# EAGLE library part SIM_CARD_9P (library Eagle_CAD_parts)
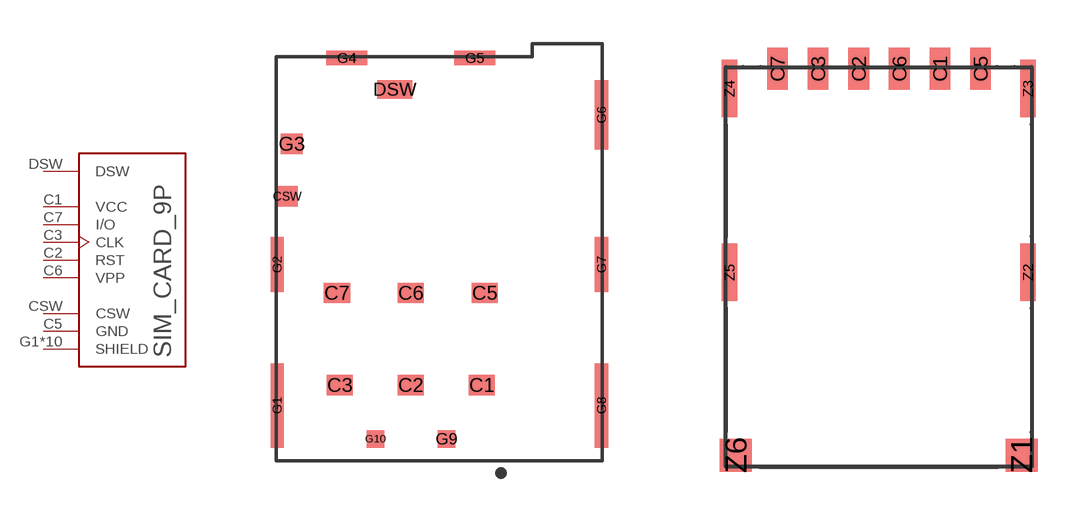
[diagram p30: symbol with the pads of NANO_SIM_CARD; footprints NANO_SIM_CARD, NANO_SIM_CARD_2]

Designator prefix S

## SIM_CARD_9P_SF72S006VBAR2500 (DIGIKEY_PART_NUMBER: 670-2799-1-ND; MANUFACTURER_PART_NUMBER: SF72S006VBAR2500; SIM_SIZE: Nano)  [NANO_SIM_CARD]
C1  VCC  pwr
C2  RST
C3  CLK
C5  GND  pwr
C6  VPP  pwr
C7  I/O
CSW  CSW
DSW  DSW
G1  SHIELD  pas
G2  SHIELD  pas
G3  SHIELD  pas
G4  SHIELD  pas
G5  SHIELD  pas
G6  SHIELD  pas
G7  SHIELD  pas
G8  SHIELD  pas
G9  SHIELD  pas
G10  SHIELD  pas

## SIM_CARD_9P_693043020611 (DIGIKEY_PART_NUMBER: 732-5954-1-ND; MANUFACTURER_PART_NUMBER: 693043020611; MOUSER_PART_NUMBER: 710-693043020611; SIM_SIZE: Nano)  [NANO_SIM_CARD_2]
C1  VCC  pwr
C2  RST
C3  CLK
C5  GND  pwr
C6  VPP  pwr
C7  I/O
Z1  SHIELD  pas
Z2  SHIELD  pas
Z3  SHIELD  pas
Z4  SHIELD  pas
Z5  CSW
Z6  DSW

## Footprint NANO_SIM_CARD (pad centres in mm)
smd 0.9 x 0.7: C1 2.44,-4.575; C2 0,-4.575; C3 -2.44,-4.575; C5 2.54,-1.405; C6 0,-1.405; C7 -2.54,-1.405
smd 0.7 x 0.7: CSW -4.245,1.925
smd 1.2 x 0.65: DSW -0.55,5.6
smd 0.45 x 2.9: G1 -4.595,-5.275; G8 6.555,-5.275
smd 0.45 x 1.9: G2 -4.595,-0.425; G7 6.555,-0.425
smd 0.75 x 0.7: G3 -4.095,3.725
smd 1.4 x 0.5: G4 -2.2,6.675; G5 2.2,6.675
smd 0.45 x 2.4: G6 6.555,4.725
smd 0.6 x 0.6: G9 1.22,-6.425; G10 -1.22,-6.425

## Footprint NANO_SIM_CARD_2 (pad centres in mm)
smd 0.65 x 1.3: C1 1.91,6.3; C2 -0.63,6.3; C3 -1.9,6.3; C5 3.18,6.3; C6 0.64,6.3; C7 -3.17,6.3
smd 1 x 1.03: Z1 4.465,-5.79; Z6 -4.465,-5.79
smd 0.48 x 1.8: Z2 4.66,-0.07; Z3 4.66,5.68; Z4 -4.67,5.68; Z5 -4.67,-0.07